# Altium footprint library 691 317 410 0xx.PcbLib: 6 footprints
Each footprint in its own frame and in the unit in brackets; x right, y up, seen from the top. Pads: shape width x height; smd on the part's side, far side on the other; paste and mask are expansions set on the pad; w line width, h text height; cw(c..) or ccw(c..) is an arc to the next point about the centre after c.
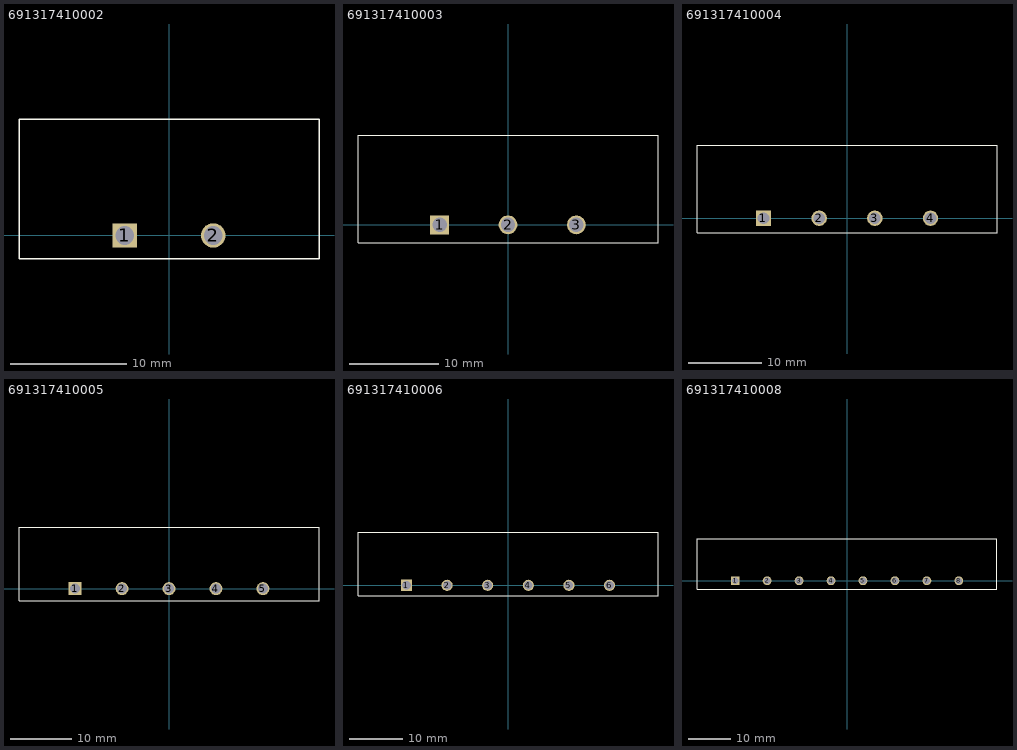
[diagram p0: the footprints below, top view; thin cyan lines are the x and y axes]

## 691317410002 [mm] "7.62 mm - Closed Horizonal PCB Header with Flanges - 2p"
height 8.5
pads (2):
  rect 2.1x2.1 hole 1.6: 1(-3.81,0)
  round 2.1 hole 1.6: 2(3.81,0)
Top Overlay:
  lines w0.127: -12.91,-2 -12.91,10 12.91,10 12.91,-2 -12.91,-2
3D body: height 8.55, standoff -3.95, extent -12.91,-2 12.91,10

## 691317410003 [mm] "7.62 mm - Closed Horizonal PCB Header with Flanges - 3p"
height 8.5
pads (3):
  rect 2.1x2.1 hole 1.6: 1(-7.62,0)
  round 2.1 hole 1.6: 2(0,0) 3(7.62,0)
Top Overlay:
  lines w0.127: -16.72,-2 -16.72,10 16.72,10 16.72,-2 -16.72,-2
3D body: height 8.55, standoff -3.95, extent -16.72,-2 16.72,10

## 691317410004 [mm] "7.62 mm - Closed Horizonal PCB Header with Flanges - 4p"
height 8.5
pads (4):
  rect 2.1x2.1 hole 1.6: 1(-11.43,0)
  round 2.1 hole 1.6: 2(-3.81,0) 3(3.81,0) 4(11.43,0)
Top Overlay:
  lines w0.127: -20.53,-2 20.53,-2 20.53,10 -20.53,10 -20.53,-2
3D body: height 8.55, standoff -3.95, extent -20.53,-2 20.53,10

## 691317410005 [mm] "7.62 mm - Closed Horizonal PCB Header with Flanges - 5p"
height 8.5
pads (5):
  rect 2.1x2.1 hole 1.6: 1(-15.24,0)
  round 2.1 hole 1.6: 2(-7.62,0) 3(0,0) 4(7.62,0) 5(15.24,0)
Top Overlay:
  lines w0.127: -24.34,-2 24.34,-2 24.34,10 -24.34,10 -24.34,-2
3D body: height 8.55, standoff -3.95, extent -24.34,-2 24.34,10

## 691317410006 [mm] "7.62 mm - Closed Horizonal PCB Header with Flanges - 6p"
height 8.5
pads (6):
  rect 2.1x2.1 hole 1.6: 1(-19.05,0)
  round 2.1 hole 1.6: 2(-11.43,0) 3(-3.81,0) 4(3.81,0) 5(11.43,0) 6(19.05,0)
Top Overlay:
  lines w0.127: -28.15,-2 -28.15,10 28.15,10 28.15,-2 -28.15,-2
3D body: height 8.55, standoff -3.95, extent -28.15,-2 28.15,10

## 691317410008 [mm] "7.62 mm - Closed Horizonal PCB Header with Flanges - 8p"
height 8.5
pads (8):
  rect 2.1x2.1 hole 1.6: 1(-26.67,0)
  round 2.1 hole 1.6: 2(-19.05,0) 3(-11.43,0) 4(-3.81,0) 5(3.81,0) 6(11.43,0) 7(19.05,0) 8(26.67,0)
Top Overlay:
  lines w0.127: -35.77,-2 35.77,-2 35.77,10 -35.77,10 -35.77,-2
3D body: height 8.55, standoff -3.95, extent -35.77,-2 35.77,10